# EAGLE library part SERVO_CONTROLLER (library Servo Controller)
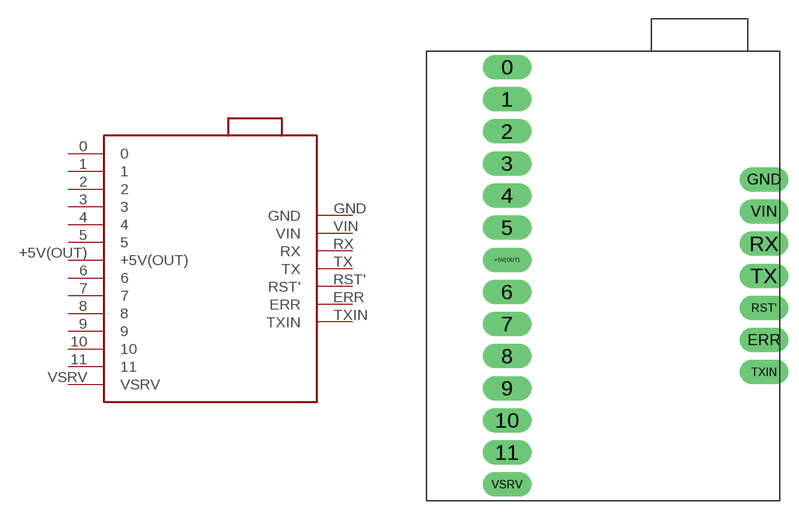
[diagram p0: symbol with the pads of SERVO_CONTROLLER; footprint SERVO_CONTROLLER]

Designator prefix -

## SERVO_CONTROLLER  [SERVO_CONTROLLER]
0  0
1  1
2  2
3  3
4  4
5  5
6  6
7  7
8  8
9  9
10  10
11  11
+5V(OUT)  +5V(OUT)
ERR  ERR
GND  GND
RST'  RST'
RX  RX
TX  TX
TXIN  TXIN
VIN  VIN
VSRV  VSRV

## Footprint SERVO_CONTROLLER (pad centres in mm)
drill 1 pad 1.93 long: 0 6.35,34.29; 1 6.35,31.75; 2 6.35,29.21; 3 6.35,26.67; 4 6.35,24.13; 5 6.35,21.59; 6 6.35,16.51; 7 6.35,13.97; 8 6.35,11.43; 9 6.35,8.89; 10 6.35,6.35; 11 6.35,3.81; +5V(OUT) 6.35,19.05; ERR 26.67,12.7; GND 26.67,25.4; RST' 26.67,15.24; RX 26.67,20.32; TX 26.67,17.78; TXIN 26.67,10.16; VIN 26.67,22.86; VSRV 6.35,1.27